# Altium footprint library Potentiometer.PcbLib: 22 footprints (part 2 of 2)
Each footprint in its own frame and in the unit in brackets; x right, y up, seen from the top. Pads: shape width x height; smd on the part's side, far side on the other; paste and mask are expansions set on the pad; w line width, h text height; cw(c..) or ccw(c..) is an arc to the next point about the centre after c.
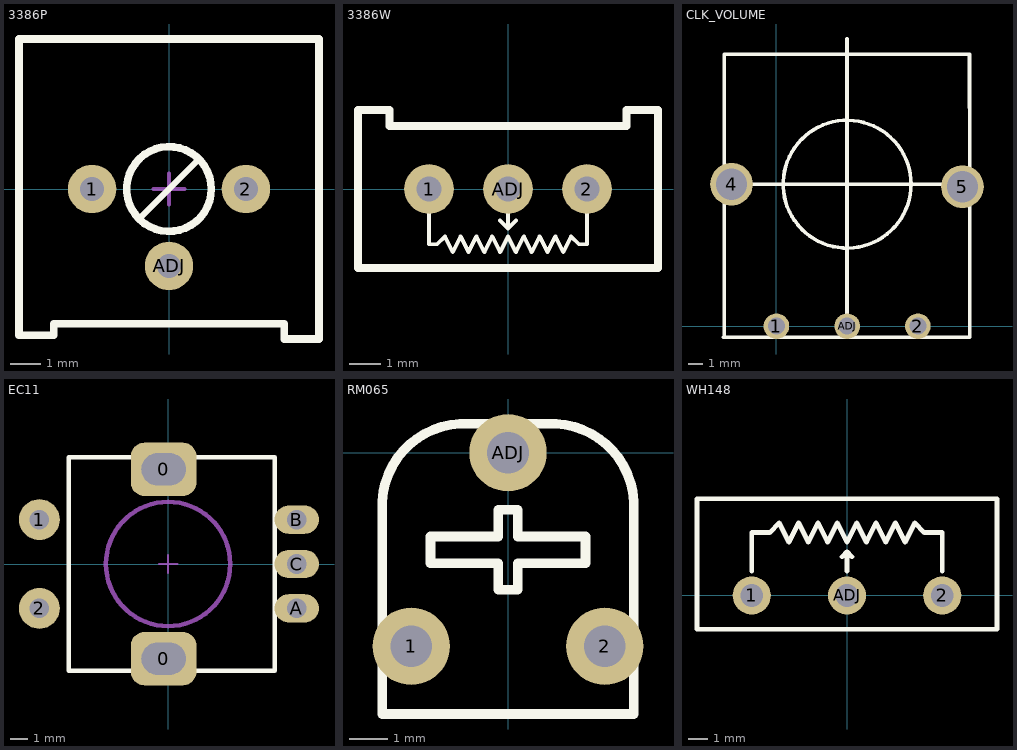
[diagram p1: the footprints below, top view; thin cyan lines are the x and y axes]

## 3386P [mm]
pads (3):
  round 1.6 hole 0.8: 1(-2.54,0) 2(2.54,0) ADJ(0,-2.54)
Top Overlay:
  circle w0.254: c0,0 r1.397
  lines w0.203: -0.889,-0.889 0.889,0.889
  lines w0.254: -4.953,-4.826 -4.445,-4.826 -3.81,-4.826 -3.81,-4.445 3.81,-4.445 3.81,-4.953 4.953,-4.953 4.953,-4.826 4.953,3.302 4.953,4.953 -4.953,4.953 -4.953,-4.826
Mechanical 15:
  lines w0.127: -0.508,0 0.508,0 ; 0,-0.508 0,0.508
3D body "3386P.STEP": height 5.02, standoff -5.49, extent -4.8,-4.774 4.8,4.826

## 3386W [mm]
pads (3):
  round 1.6 hole 0.8: 1(-2.54,0) 2(2.54,0) ADJ(0,0)
Top Overlay:
  lines w0.127: -2.54,-0.762 -2.54,-1.778 -2.286,-1.778 -2.032,-1.524 -1.778,-2.032 -1.524,-1.524 -1.27,-2.032 -1.016,-1.524 -0.762,-2.032 -0.508,-1.524 -0.254,-2.032 0,-1.524 0.254,-2.032 0.508,-1.524 0.762,-2.032 1.016,-1.524 1.27,-2.032 1.524,-1.524 1.778,-2.032 2.032,-1.524 2.286,-1.778 2.54,-1.778 2.54,-0.762 ; -0.254,-1.016 0,-1.27 ; 0,-0.762 0,-1.27 ; 0.254,-1.016 0,-1.27
  lines w0.254: -4.826,-2.54 -4.826,2.54 -3.81,2.54 -3.81,2.032 3.81,2.032 3.81,2.54 4.826,2.54 4.826,-2.54 -4.826,-2.54
3D body "CERMET TRIMMER SINGLE TURN 10MM 500MW SIDE ADJUST 3386W.step": height 9.53, standoff -5, extent -4.765,-2.392 4.765,2.438

## CLK_VOLUME [mm]
pads (5):
  round 1.8 hole 1.2: 1(0,0) 2(9.96,0) ADJ(4.98,0)
  round 3 hole 2.2: 4(-3.159,10) 5(13.097,9.824)
Top Overlay:
  circle w0.254: c4.976,10 r4.5
  lines w0.254: -3.756,-0.763 13.516,-0.763 ; -3.679,19.142 -3.667,-0.769 ; -3.672,19.144 13.6,19.144 ; -3.159,10 13.104,10 ; 4.969,0.924 4.969,20.221 ; 13.593,19.142 13.605,11.524 13.619,-0.769
3D body "SW3dPS-Encoder.STEP": height 32, standoff -3, extent -4.047,-1.727 13.953,19.273

## EC11 [mm] "���ֿ��ر�����"
pads (7):
  rrect50% 3.7x3 hole 1.8 slot 2.5 at 0 deg: 0(-0.254,-5.334) 0(-0.254,5.334)
  round 2.3 hole 1.1: 1(-7.25,2.5) 2(-7.25,-2.5)
  oval 2.5x1.6 hole 1.1: A(7.25,-2.5) B(7.25,2.5) C(7.25,0)
Top Overlay:
  lines w0.254: -5.588,-6 6,-6 6,6 -5.588,6 -5.588,-6
Mechanical 15:
  circle w0.254: c0,0 r3.5
  lines w0.127: -0.508,0 0.508,0 ; 0,-0.508 0,0.508
3D body "CE11.STEP": height 22, standoff -3.5, extent -7.35,-6.237 7.45,6.237

## RM065 [mil] "���׿ɵ���λ��"
pads (3):
  round 80 hole 43.31: 1(-100,-200) 2(100,-200) ADJ(0,0)
Top Overlay:
  lines w10: -130,-270 -130,-50 cw(c-45,-55) -40,30 40,30 cw(c45,-55) 130,-50 130,-270 -130,-270 ; -80,-114.17 -10,-114.17 -10,-141.73 10,-141.73 10,-114.17 80,-114.17 80,-86.61 10,-86.61 10,-59.06 -10,-59.06 -10,-70 -10,-86.61 -80,-86.61 -80,-114.17
3D body "RM065.STEP": height 299.21, standoff -137.8, extent -127.95,-268.83 127.96,29.59

## WH148 [mm] "�������ŵ�λ��"
pads (3):
  round 2 hole 1.2: 1(-5,0) 2(5,0) ADJ(0,0)
Top Overlay:
  lines w0.254: -5,1.27 -5,3.302 -4.064,3.302 -3.556,3.81 -3.048,2.794 -2.54,3.81 -2.032,2.794 -1.524,3.81 -1.016,2.794 -0.508,3.81 0,2.794 0.508,3.81 1.016,2.794 1.524,3.81 2.032,2.794 2.54,3.81 3.048,2.794 3.556,3.81 4.064,3.302 4.572,3.302 5,3.302 5,1.27 ; -0.254,2.032 0,2.286 ; 0,1.27 0,2.286 ; 0.254,2.032 0,2.286 ; -7.874,-1.778 7.874,-1.778 7.874,5.08 -7.874,5.08 -7.874,-1.778
3D body "Potentiometer 4.STEP": height 20.04, standoff -4.6, extent -7.874,-20.58 7.874,4.978